# Altium footprint library rever.PcbLib: 7 footprints
Each footprint in its own frame and in the unit in brackets; x right, y up, seen from the top. Pads: shape width x height; smd on the part's side, far side on the other; paste and mask are expansions set on the pad; w line width, h text height; cw(c..) or ccw(c..) is an arc to the next point about the centre after c.
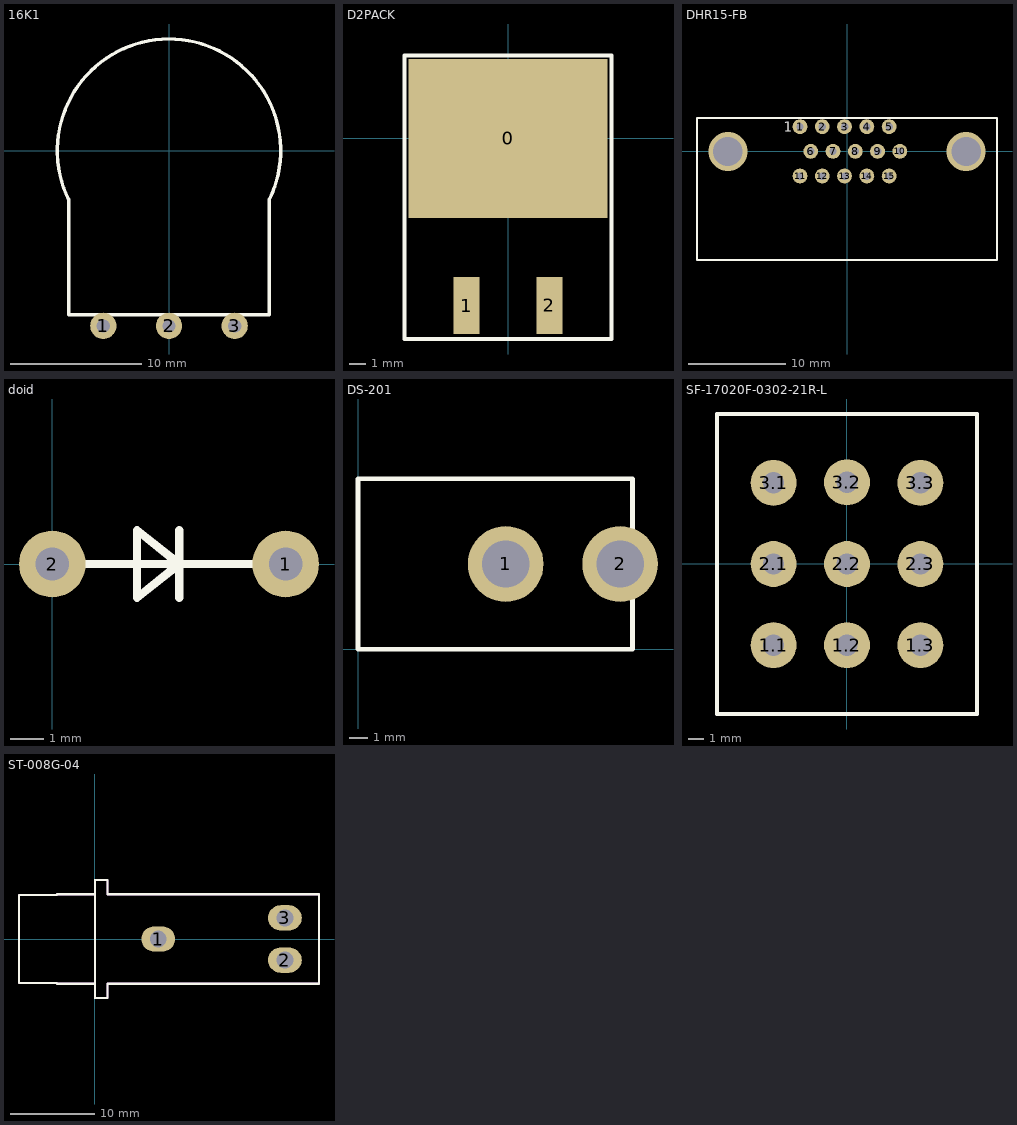
[diagram p0: the footprints below, top view; thin cyan lines are the x and y axes]

## 16K1 [mm]
pads (3):
  round 2 hole 1: 1(-5,-13.335) 2(0,-13.335) 3(5,-13.335)
Top Overlay:
  lines w0.254: -7.631,-3.744 cw(c0,0) 7.653,-3.699 ; -7.62,-3.683 -7.62,-12.5 7.62,-12.5 7.62,-3.683
3D body: height 21.3, standoff 0, extent -8.443,-16.5 8.438,8.45

## D2PACK [mm]
pads (3):
  rect 12.2x9.75 smd: 0(0,0)
  rect 1.6x3.5 smd: 1(-2.54,-10.275) 2(2.54,-10.257)
Top Overlay:
  lines w0.254: -6.35,-12.319 6.35,-12.319 6.35,5.08 -6.35,5.08 -6.35,-12.319

## DHR15-FB [mil]
pads (15):
  round 60 hole 30: 1(-190.16,100) 2(-100,100) 3(-9.84,100) 4(80.31,100) 5(170.47,100) 6(-146.65,0) 7(-56.5,0) 8(33.66,0) 9(123.82,0) 10(213.98,0) 11(-190.16,-100) 12(-100,-100) 13(-9.84,-100) 14(80.31,-100) 15(170.47,-100)
via 482.28,0 diameter 157.48 hole 118.11
via -482.28,0 diameter 157.48 hole 118.11
Top Overlay:
  lines w10: -607.09,-439.76 -118.11,-439.76 0,-439.76 118.11,-439.76 607.09,-439.76 607.09,135 179.96,135 61.85,135 -179.96,135 -607.09,135 -607.09,-439.76
  text "1" at -255,80 h39.37
3D body: height 495.08, standoff -136.81, extent -606.5,-695.71 606.5,135

## doid [mm]
pads (2):
  round 2 hole 1: 1(7,0) 2(0,0)
Top Overlay:
  lines w0.254: 0,0 7,0 ; 3.81,-1.016 3.81,0 ; 2.54,1.016 3.81,0 ; 2.54,1.016 3.81,0 ; 2.54,1.016 2.54,-1.016 3.81,0 ; 3.81,0 3.81,1.016 3.81,0

## DS-201 [mm]
height 11
pads (2):
  round 4 hole 2.5: 1(7.8,4.5) 2(13.843,4.5)
Top Overlay:
  lines w0.254: 0,0 14.5,0 14.5,9 0,9 0,0
3D body: height 11, standoff -3.5, extent 0,0 14.5,9

## SF-17020F-0302-21R-L [mm]
pads (9):
  round 3 hole 1.4: 1.1(-4.8,-5.3) 1.2(0,-5.3) 1.3(4.8,-5.3) 2.1(-4.8,0) 2.2(0,0) 2.3(4.8,0) 3.1(-4.8,5.3) 3.2(0,5.334) 3.3(4.8,5.3)
Top Overlay:
  lines w0.254: -8.5,-9.8 8.5,-9.8 8.5,9.8 -8.5,9.8 -8.5,-9.8
Mechanical 1:
  lines w0.254: -8.5,-9.8 8.5,-9.8 8.5,9.8 -8.5,9.8 -8.5,-9.8
3D body: height 16.7, standoff 0, extent -8.499,-9.799 8.499,9.799

## ST-008G-04 [mm]
height 10.6
pads (3):
  oval 4x3 hole 2: 1(7.5,0) 2(22.5,-2.5) 3(22.5,2.5)
Top Overlay:
  lines w0.254: -4.5,-5.3 0,-5.3 ; -4.5,-5.2 -9,-5.2 -9,0 -9,5.2 -4.5,5.2 -4.5,5.3 0,5.3 ; 0,-6.985 0.015,-7 1.5,-7 1.5,-5.3 26.543,-5.3 26.543,1.543 26.543,5.3 1.5,5.3 1.5,7 0.015,7 0,6.985 0,0 0,-6.985
Mechanical 1:
  lines w0.254: -9,-5.2 -4.5,-5.2 -4.5,-5.3 0,-5.3 0.015,-7 1.397,-7 1.5,-7 1.5,-5.3 26.543,-5.3 26.543,0 26.543,5.3 1.5,5.3 1.5,7 1.397,7 0.015,7 0,5.3 -4.5,5.3 -4.5,5.2 -9,5.2 -9,-5.2
3D body: height 10.6, standoff 0, extent -9.001,-7.001 26.544,7.001